# Altium footprint library 7937-0-00-15-00-00-03-0.PcbLib: 1 footprints
Each footprint in its own frame and in the unit in brackets; x right, y up, seen from the top. Pads: shape width x height; smd on the part's side, far side on the other; paste and mask are expansions set on the pad; w line width, h text height; cw(c..) or ccw(c..) is an arc to the next point about the centre after c.
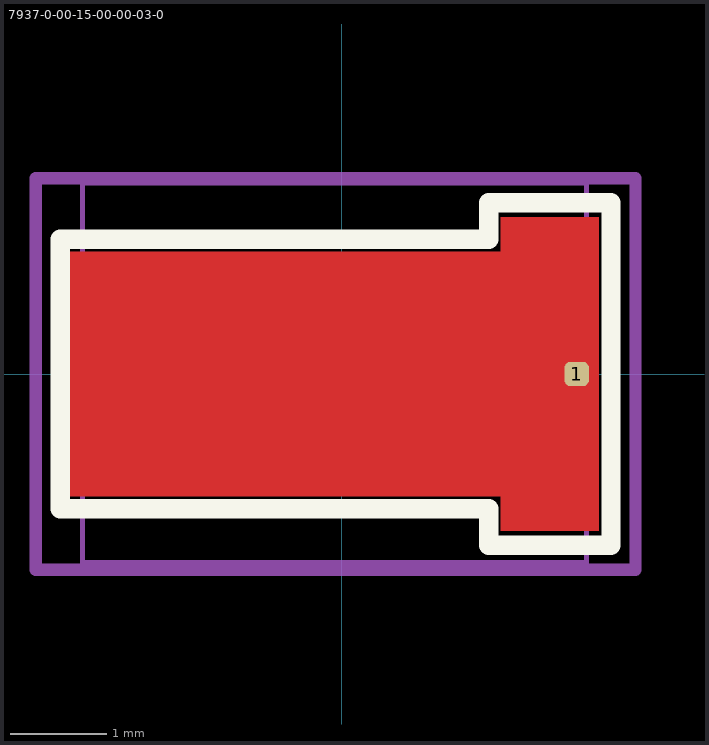
[diagram p0: the footprint, top view; thin cyan lines are the x and y axes]

## 7937-0-00-15-00-00-03-0 [mil]
pads (1):
  rrect50% 10x10 smd paste-10 mask+2.76: 1(96,0)
Top Layer:
  region: -111,50 65,50 65,64 105,64 105,-64 65,-64 65,-50 -111,-50
Top Overlay:
  lines w7.87: -115,-55 -115,55 60,55 60,70 110,70 110,15 110,-70 60,-70 60,-55 -115,-55
Top Paste:
  region: 95,-50 95,50 75,50 75,-50
  rectangle: 15,20 55,40
  rectangle: 15,-10 55,10
  rectangle: 15,-40 55,-20
  rectangle: -35,-40 5,-20
  rectangle: -35,-10 5,10
  rectangle: -95,-10 -55,10
  rectangle: -35,20 5,40
  rectangle: -95,-40 -55,-20
  rectangle: -95,20 -55,40
Mechanical 2:
  lines w2: -106,-77 -106,78 100,78 100,-77 -106,-77
Mechanical 4:
  lines w5: -10,0 10,0 ; 0,-10 0,10 ; -125,-80 -125,80 120,80 120,-80 -125,-80
3D body "mill-max-7937-0-00-15-00-00-03-0.step": height 100, standoff 0, extent -106,-77 100,78